# Altium integrated library 560050316001_Altium_WRIS-KSKE_rev19a.IntLib: 17 symbols
Pins are listed as number, name and electrical type; pins without a type are passive.

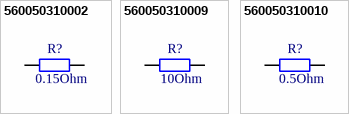
[diagram p0: symbols 560050310002 to 560050310010]

## 560050310002
designator R?, comment 0.15Ohm
WRIS-KSKE Thick Film Resistors, size 0402, 0.15Ohm, +/-1%, 0.125W; Part Number: 560050310002; Rated Current: 0.91A; Temperature Coefficient of Resistance: 300ppm/degC; Technical Reference: KE0402R150F108IAATH0000; ComponentLink1Description: Manufacturer; ComponentLink1URL: http://www.we-online.de; ComponentLink2Description: Datasheet; ComponentLink2URL: https://katalog.we-online.com/pbs/datasheet/560050310002.pdf; Publisher: Wurth Elektronik; Rated Power: 0.125W; Resistance: 0.15Ohm; Mounting Technology: SMT; Height: 0.35mm; Packaging: Tape and Reel; Published Date: September 2019; Size: 0402; Length: 1mm; Operating Temperature: -55 to +155degC; Resistance Tolerance: +/-1%; Width: 0.5mm
footprint WRIS-KSKE_0402_H=0.35mm
pins: 1, 2

## 560050310009
designator R?, comment 10Ohm
WRIS-KSKE Thick Film Resistors, size 0402, 10Ohm, +/-1%, 0.125W; Part Number: 560050310009; Rated Current: 0.11A; Temperature Coefficient of Resistance: +/-100ppm/degC; Technical Reference: KE04020100F108KAATH0000; ComponentLink1Description: Manufacturer; ComponentLink1URL: http://www.we-online.de; ComponentLink2Description: Datasheet; ComponentLink2URL: https://katalog.we-online.com/pbs/datasheet/560050310009.pdf; Publisher: Wurth Elektronik; Rated Power: 0.125W; Resistance: 10Ohm; Mounting Technology: SMT; Height: 0.35mm; Packaging: Tape and Reel; Published Date: September 2019; Size: 0402; Length: 1mm; Operating Temperature: -55 to +155degC; Resistance Tolerance: +/-1%; Width: 0.5mm
footprint WRIS-KSKE_0402_H=0.35mm
pins: 1, 2

## 560050310010
designator R?, comment 0.5Ohm
WRIS-KSKE Thick Film Resistors, size 0402, 0.5Ohm, +/-1%, 0.125W; Part Number: 560050310010; Rated Current: 0.5A; Temperature Coefficient of Resistance: 200ppm/degC; Technical Reference: KE0402R500F108HAATH0000; ComponentLink1Description: Manufacturer; ComponentLink1URL: http://www.we-online.de; ComponentLink2Description: Datasheet; ComponentLink2URL: https://katalog.we-online.com/pbs/datasheet/560050310010.pdf; Publisher: Wurth Elektronik; Rated Power: 0.125W; Resistance: 0.5Ohm; Mounting Technology: SMT; Height: 0.35mm; Packaging: Tape and Reel; Published Date: September 2019; Size: 0402; Length: 1mm; Operating Temperature: -55 to +155degC; Resistance Tolerance: +/-1%; Width: 0.5mm
footprint WRIS-KSKE_0402_H=0.35mm
pins: 1, 2


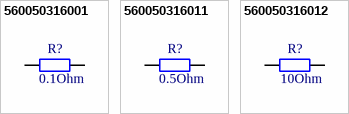
[diagram p1: symbols 560050316001 to 560050316012]

## 560050316001
designator R?, comment 0.1Ohm
WRIS-KSKE Thick Film Resistors, size 0603, 0.1Ohm, +/-1%, 0.25W; Part Number: 560050316001; Rated Current: 1.58A; Temperature Coefficient of Resistance: 250ppm/degC; Technical Reference: KE0603R100F104LAATP0000; ComponentLink1Description: Manufacturer; ComponentLink1URL: http://www.we-online.de; ComponentLink2Description: Datasheet; ComponentLink2URL: https://katalog.we-online.com/pbs/datasheet/560050316001.pdf; Publisher: Wurth Elektronik; Rated Power: 0.25W; Resistance: 0.1Ohm; Mounting Technology: SMT; Height: 0.45mm; Packaging: Tape and Reel; Published Date: September 2019; Size: 0603; Length: 1.6mm; Operating Temperature: -55 to +155degC; Resistance Tolerance: +/-1%; Width: 0.8mm
footprint WRIS-KSKE_0603_H=0.45mm
pins: 1, 2

## 560050316011
designator R?, comment 0.5Ohm
WRIS-KSKE Thick Film Resistors, size 0603, 0.5Ohm, +/-1%, 0.25W; Part Number: 560050316011; Rated Current: 0.7A; Temperature Coefficient of Resistance: +/-100ppm/degC; Technical Reference: KE0603R500F104KAATP0000; ComponentLink1Description: Manufacturer; ComponentLink1URL: http://www.we-online.de; ComponentLink2Description: Datasheet; ComponentLink2URL: https://katalog.we-online.com/pbs/datasheet/560050316011.pdf; Publisher: Wurth Elektronik; Rated Power: 0.25W; Resistance: 0.5Ohm; Mounting Technology: SMT; Height: 0.45mm; Packaging: Tape and Reel; Published Date: September 2019; Size: 0603; Length: 1.6mm; Operating Temperature: -55 to +155degC; Resistance Tolerance: +/-1%; Width: 0.8mm
footprint WRIS-KSKE_0603_H=0.45mm
pins: 1, 2

## 560050316012
designator R?, comment 10Ohm
WRIS-KSKE Thick Film Resistors, size 0603, 10Ohm, +/-1%, 0.25W; Part Number: 560050316012; Rated Current: 0.15A; Temperature Coefficient of Resistance: +/-100ppm/degC; Technical Reference: KE06030100F104KAATP0000; ComponentLink1Description: Manufacturer; ComponentLink1URL: http://www.we-online.de; ComponentLink2Description: Datasheet; ComponentLink2URL: https://katalog.we-online.com/pbs/datasheet/560050316012.pdf; Publisher: Wurth Elektronik; Rated Power: 0.25W; Resistance: 10Ohm; Mounting Technology: SMT; Height: 0.45mm; Packaging: Tape and Reel; Published Date: September 2019; Size: 0603; Length: 1.6mm; Operating Temperature: -55 to +155degC; Resistance Tolerance: +/-1%; Width: 0.8mm
footprint WRIS-KSKE_0603_H=0.45mm
pins: 1, 2


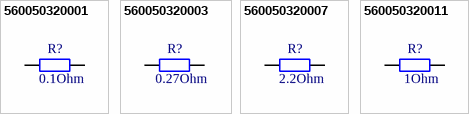
[diagram p2: symbols 560050320001 to 560050320011]

## 560050320001
designator R?, comment 0.1Ohm
WRIS-KSKE Thick Film Resistors, size 0805, 0.1Ohm, +/-1%, 0.33W; Part Number: 560050320001; Rated Current: 1.81A; Temperature Coefficient of Resistance: 250ppm/degC; Technical Reference: KE0805R100F103LAATP0000; ComponentLink1Description: Manufacturer; ComponentLink1URL: http://www.we-online.de; ComponentLink2Description: Datasheet; ComponentLink2URL: https://katalog.we-online.com/pbs/datasheet/560050320001.pdf; Publisher: Wurth Elektronik; Rated Power: 0.33W; Resistance: 0.1Ohm; Mounting Technology: SMT; Height: 0.6mm; Packaging: Tape and Reel; Published Date: September 2019; Size: 0805; Length: 2mm; Operating Temperature: -55 to +155degC; Resistance Tolerance: +/-1%; Width: 1.25mm
footprint WRIS-KSKE_0805_H=0.6mm
pins: 1, 2

## 560050320003
designator R?, comment 0.27Ohm
WRIS-KSKE Thick Film Resistors, size 0805, 0.27Ohm, +/-1%, 0.33W; Part Number: 560050320003; Rated Current: 1.1A; Temperature Coefficient of Resistance: 200ppm/degC; Technical Reference: KE0805R270F103HAATP0000; ComponentLink1Description: Manufacturer; ComponentLink1URL: http://www.we-online.de; ComponentLink2Description: Datasheet; ComponentLink2URL: https://katalog.we-online.com/pbs/datasheet/560050320003.pdf; Publisher: Wurth Elektronik; Rated Power: 0.33W; Resistance: 0.27Ohm; Mounting Technology: SMT; Height: 0.6mm; Packaging: Tape and Reel; Published Date: September 2019; Size: 0805; Length: 2mm; Operating Temperature: -55 to +155degC; Resistance Tolerance: +/-1%; Width: 1.25mm
footprint WRIS-KSKE_0805_H=0.6mm
pins: 1, 2

## 560050320007
designator R?, comment 2.2Ohm
WRIS-KSKE Thick Film Resistors, size 0805, 2.2Ohm, +/-1%, 0.33W; Part Number: 560050320007; Rated Current: 0.38A; Temperature Coefficient of Resistance: +/-100ppm/degC; Technical Reference: KE08052R20F103KAATP0000; ComponentLink1Description: Manufacturer; ComponentLink1URL: http://www.we-online.de; ComponentLink2Description: Datasheet; ComponentLink2URL: https://katalog.we-online.com/pbs/datasheet/560050320007.pdf; Publisher: Wurth Elektronik; Rated Power: 0.33W; Resistance: 2.2Ohm; Mounting Technology: SMT; Height: 0.6mm; Packaging: Tape and Reel; Published Date: September 2019; Size: 0805; Length: 2mm; Operating Temperature: -55 to +155degC; Resistance Tolerance: +/-1%; Width: 1.25mm
footprint WRIS-KSKE_0805_H=0.6mm
pins: 1, 2

## 560050320011
designator R?, comment 1Ohm
WRIS-KSKE Thick Film Resistors, size 0805, 1Ohm, +/-1%, 0.33W; Part Number: 560050320011; Rated Current: 0.57A; Temperature Coefficient of Resistance: +/-100ppm/degC; Technical Reference: KE08051R00F103KAATP0000; ComponentLink1Description: Manufacturer; ComponentLink1URL: http://www.we-online.de; ComponentLink2Description: Datasheet; ComponentLink2URL: https://katalog.we-online.com/pbs/datasheet/560050320011.pdf; Publisher: Wurth Elektronik; Rated Power: 0.33W; Resistance: 1Ohm; Mounting Technology: SMT; Height: 0.6mm; Packaging: Tape and Reel; Published Date: September 2019; Size: 0805; Length: 2mm; Operating Temperature: -55 to +155degC; Resistance Tolerance: +/-1%; Width: 1.25mm
footprint WRIS-KSKE_0805_H=0.6mm
pins: 1, 2


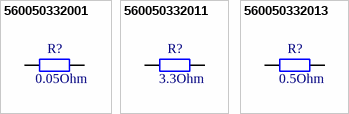
[diagram p3: symbols 560050332001 to 560050332013]

## 560050332001
designator R?, comment 0.05Ohm
WRIS-KSKE Thick Film Resistors, size 1206, 0.05Ohm, +/-1%, 0.5W; Part Number: 560050332001; Rated Current: 3.16A; Temperature Coefficient of Resistance: 250ppm/degC; Technical Reference: KE1206R050F102LAATP0000; ComponentLink1Description: Manufacturer; ComponentLink1URL: http://www.we-online.de; ComponentLink2Description: Datasheet; ComponentLink2URL: https://katalog.we-online.com/pbs/datasheet/560050332001.pdf; Publisher: Wurth Elektronik; Rated Power: 0.5W; Resistance: 0.05Ohm; Mounting Technology: SMT; Height: 0.6mm; Packaging: Tape and Reel; Published Date: September 2019; Size: 1206; Length: 3.1mm; Operating Temperature: -55 to +155degC; Resistance Tolerance: +/-1%; Width: 1.6mm
footprint WRIS-KSKE_1206_H=0.6mm
pins: 1, 2

## 560050332011
designator R?, comment 3.3Ohm
WRIS-KSKE Thick Film Resistors, size 1206, 3.3Ohm, +/-1%, 0.5W; Part Number: 560050332011; Rated Current: 0.38A; Temperature Coefficient of Resistance: +/-100ppm/degC; Technical Reference: KE12063R30F102KAATP0000; ComponentLink1Description: Manufacturer; ComponentLink1URL: http://www.we-online.de; ComponentLink2Description: Datasheet; ComponentLink2URL: https://katalog.we-online.com/pbs/datasheet/560050332011.pdf; Publisher: Wurth Elektronik; Rated Power: 0.5W; Resistance: 3.3Ohm; Mounting Technology: SMT; Height: 0.6mm; Packaging: Tape and Reel; Published Date: September 2019; Size: 1206; Length: 3.1mm; Operating Temperature: -55 to +155degC; Resistance Tolerance: +/-1%; Width: 1.6mm
footprint WRIS-KSKE_1206_H=0.6mm
pins: 1, 2

## 560050332013
designator R?, comment 0.5Ohm
WRIS-KSKE Thick Film Resistors, size 1206, 0.5Ohm, +/-1%, 0.5W; Part Number: 560050332013; Rated Current: 1A; Temperature Coefficient of Resistance: +/-100ppm/degC; Technical Reference: KE1206R500F102KAATP0000; ComponentLink1Description: Manufacturer; ComponentLink1URL: http://www.we-online.de; ComponentLink2Description: Datasheet; ComponentLink2URL: https://katalog.we-online.com/pbs/datasheet/560050332013.pdf; Publisher: Wurth Elektronik; Rated Power: 0.5W; Resistance: 0.5Ohm; Mounting Technology: SMT; Height: 0.6mm; Packaging: Tape and Reel; Published Date: September 2019; Size: 1206; Length: 3.1mm; Operating Temperature: -55 to +155degC; Resistance Tolerance: +/-1%; Width: 1.6mm
footprint WRIS-KSKE_1206_H=0.6mm
pins: 1, 2


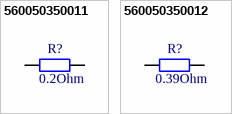
[diagram p4: symbols 560050350011 to 560050350012]

## 560050350011
designator R?, comment 0.2Ohm
WRIS-KSKE Thick Film Resistors, size 2010, 0.2Ohm, +/-1%, 0.75W; Part Number: 560050350011; Rated Current: 1.93A; Temperature Coefficient of Resistance: 200ppm/degC; Technical Reference: KE2010R200F304HAATE0000; ComponentLink1Description: Manufacturer; ComponentLink1URL: http://www.we-online.de; ComponentLink2Description: Datasheet; ComponentLink2URL: https://katalog.we-online.com/pbs/datasheet/560050350011.pdf; Publisher: Wurth Elektronik; Rated Power: 0.75W; Resistance: 0.2Ohm; Mounting Technology: SMT; Height: 0.6mm; Packaging: Tape and Reel; Published Date: September 2019; Size: 2010; Length: 5mm; Operating Temperature: -55 to +155degC; Resistance Tolerance: +/-1%; Width: 2.5mm
footprint WRIS-KSKE_2010_H=0.6mm
pins: 1, 2

## 560050350012
designator R?, comment 0.39Ohm
WRIS-KSKE Thick Film Resistors, size 2010, 0.39Ohm, +/-1%, 0.75W; Part Number: 560050350012; Rated Current: 1.38A; Temperature Coefficient of Resistance: 200ppm/degC; Technical Reference: KE2010R390F304HAATE0000; ComponentLink1Description: Manufacturer; ComponentLink1URL: http://www.we-online.de; ComponentLink2Description: Datasheet; ComponentLink2URL: https://katalog.we-online.com/pbs/datasheet/560050350012.pdf; Publisher: Wurth Elektronik; Rated Power: 0.75W; Resistance: 0.39Ohm; Mounting Technology: SMT; Height: 0.6mm; Packaging: Tape and Reel; Published Date: September 2019; Size: 2010; Length: 5mm; Operating Temperature: -55 to +155degC; Resistance Tolerance: +/-1%; Width: 2.5mm
footprint WRIS-KSKE_2010_H=0.6mm
pins: 1, 2


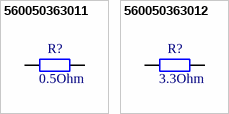
[diagram p5: symbols 560050363011 to 560050363012]

## 560050363011
designator R?, comment 0.5Ohm
WRIS-KSKE Thick Film Resistors, size 2512, 0.5Ohm, +/-1%, 1W; Part Number: 560050363011; Rated Current: 1.41A; Temperature Coefficient of Resistance: +/-100ppm/degC; Technical Reference: KE2512R500F101KAATE0000; ComponentLink1Description: Manufacturer; ComponentLink1URL: http://www.we-online.de; ComponentLink2Description: Datasheet; ComponentLink2URL: https://katalog.we-online.com/pbs/datasheet/560050363011.pdf; Publisher: Wurth Elektronik; Rated Power: 1W; Resistance: 0.5Ohm; Mounting Technology: SMT; Height: 0.6mm; Packaging: Tape and Reel; Published Date: September 2019; Size: 2512; Length: 6.3mm; Operating Temperature: -55 to +155degC; Resistance Tolerance: +/-1%; Width: 3.2mm
footprint WRIS-KSKE_2512_H=0.6mm
pins: 1, 2

## 560050363012
designator R?, comment 3.3Ohm
WRIS-KSKE Thick Film Resistors, size 2512, 3.3Ohm, +/-1%, 1W; Part Number: 560050363012; Rated Current: 0.55A; Temperature Coefficient of Resistance: +/-100ppm/degC; Technical Reference: KE25123R30F101KAATE0000; ComponentLink1Description: Manufacturer; ComponentLink1URL: http://www.we-online.de; ComponentLink2Description: Datasheet; ComponentLink2URL: https://katalog.we-online.com/pbs/datasheet/560050363012.pdf; Publisher: Wurth Elektronik; Rated Power: 1W; Resistance: 3.3Ohm; Mounting Technology: SMT; Height: 0.6mm; Packaging: Tape and Reel; Published Date: September 2019; Size: 2512; Length: 6.3mm; Operating Temperature: -55 to +155degC; Resistance Tolerance: +/-1%; Width: 3.2mm
footprint WRIS-KSKE_2512_H=0.6mm
pins: 1, 2